# EAGLE library part MAX3088 (library innove-ic-comms)
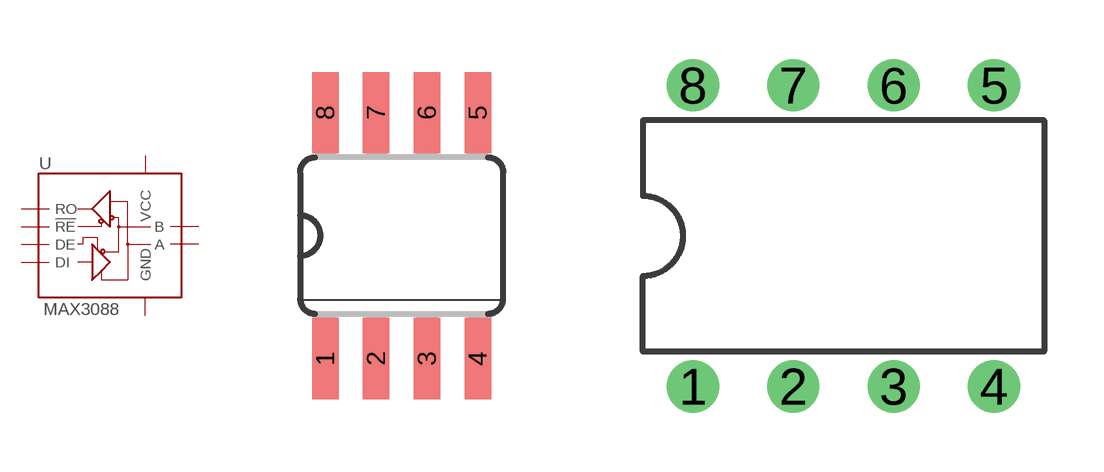
[diagram p1: symbol with the pads of SO08; footprints SO08, DIP-8]

Designator prefix U

## MAX3088CSA  [SO08]
1  RO
2  !RE
3  DE
4  DI
5  GND
6  A
7  B
8  VCC

## MAX3088ESA  [SO08]
Pads as for SO08

## MAX3088CPA  [DIP-8]
Pads as for SO08

## MAX3088EPA  [DIP-8]
Pads as for SO08

## Footprint SO08 (pad centres in mm)
Small Outline package 150 mil
smd 0.66 x 2.032: 1 -1.905,-3.073; 2 -0.635,-3.073; 3 0.635,-3.073; 4 1.905,-3.073; 5 1.905,3.073; 6 0.635,3.073; 7 -0.635,3.073; 8 -1.905,3.073

## Footprint DIP-8 (pad centres in mm)
Dual In Line Package
drill 0.813 pad 1.27: 1 -3.81,-3.81; 2 -1.27,-3.81; 3 1.27,-3.81; 4 3.81,-3.81; 5 3.81,3.81; 6 1.27,3.81; 7 -1.27,3.81; 8 -3.81,3.81